# Altium footprint library con-jst.PcbLib: 3 footprints
Each footprint in its own frame and in the unit in brackets; x right, y up, seen from the top. Pads: shape width x height; smd on the part's side, far side on the other; paste and mask are expansions set on the pad; w line width, h text height; cw(c..) or ccw(c..) is an arc to the next point about the centre after c.
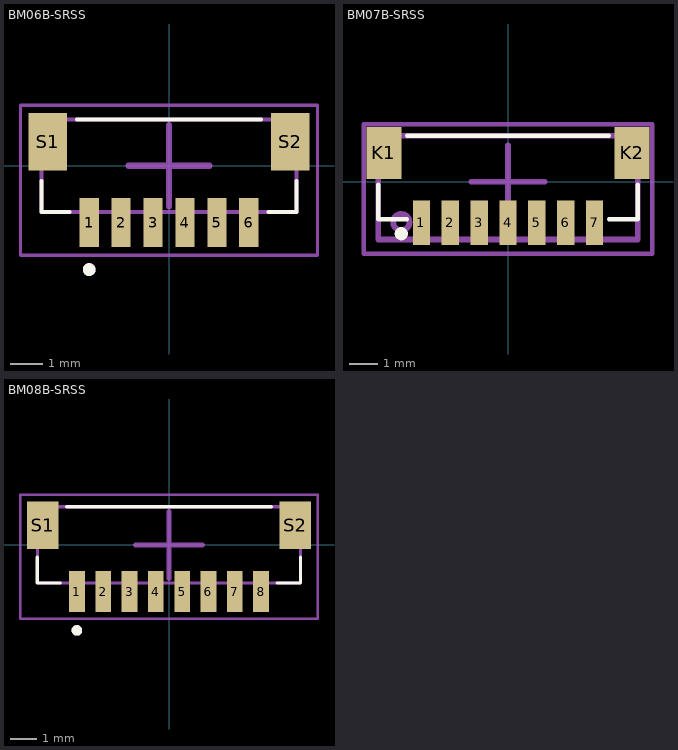
[diagram p0: the footprints below, top view; thin cyan lines are the x and y axes]

## BM06B-SRSS [mm]
height 4.25
pads (8):
  rect 0.6x1.55 smd: 1(-2.5,-1.775) 2(-1.5,-1.775) 3(-0.5,-1.775) 4(0.5,-1.775) 5(1.5,-1.775) 6(2.5,-1.775)
  rect 1.2x1.8 smd: S1(-3.8,0.75) S2(3.8,0.75)
Top Overlay:
  circle w0.2: c-2.5,-3.25 r0.1
  lines w0.127: -4,-0.47 -4,-1.45 -3.12,-1.45 ; -2.88,1.45 2.88,1.45 ; 3.12,-1.45 4,-1.45 4,-0.47
Top Assembly (Mech3):
  circle w0.2: c-2.5,-3.25 r0.1
  lines w0.127: -4,-1.45 -4,1.45 4,1.45 4,-1.45 -4,-1.45
Top Courtyard:
  lines w0.1: -4.65,-2.8 4.65,-2.8 4.65,1.9 -4.65,1.9 -4.65,-2.8
  lines w0.2: -1.27,0 1.27,0 ; 0,-1.27 0,1.27
3D body "step_temp.STEP": height 4.25, standoff 0, extent -4,-2.15 4,1.45

## BM07B-SRSS [mm]
height 4.25
pads (9):
  rect 0.6x1.55 smd: 1(-3,-1.425) 2(-2,-1.425) 3(-1,-1.425) 4(0,-1.425) 5(1,-1.425) 6(2,-1.425) 7(3,-1.425)
  rect 1.2x1.8 smd: K1(-4.3,1) K2(4.3,1)
Top Overlay:
  circle w0.254: c-3.7,-1.8 r0.1
  lines w0.15: -4.5,-0.1 -4.5,-1.3 -3.5,-1.3 ; -3.5,1.6 3.5,1.6 ; 3.5,-1.3 4.5,-1.3 4.5,-0.1
Top Assembly (Mech3):
  circle w0.2: c-3.7,-1.4 r0.283
  lines w0.2: -4.5,-2 -4.5,1.6 4.5,1.6 4.5,-2 -4.5,-2
Top Courtyard:
  lines w0.15: -5,-2.5 5,-2.5 5,2 -5,2 -5,-2.5
  lines w0.2: -1.27,0 1.27,0 ; 0,-1.27 0,1.27
3D body "BM07B-SRSS-TB.STEP": height 4.29, standoff -0.03, extent -4.5,-2 4.5,1.6

## BM08B-SRSS [mm]
height 4.25
pads (10):
  rect 0.6x1.55 smd: 1(-3.5,-1.775) 2(-2.5,-1.775) 3(-1.5,-1.775) 4(-0.5,-1.775) 5(0.5,-1.775) 6(1.5,-1.775) 7(2.5,-1.775) 8(3.5,-1.775)
  rect 1.2x1.8 smd: S1(-4.8,0.75) S2(4.8,0.75)
Top Overlay:
  circle w0.2: c-3.5,-3.25 r0.1
  lines w0.127: -5,-0.47 -5,-1.45 -4.12,-1.45 ; -3.88,1.45 3.88,1.45 ; 4.12,-1.45 5,-1.45 5,-0.47
Top Assembly (Mech3):
  circle w0.2: c-3.5,-3.25 r0.1
  lines w0.127: -5,-1.45 -5,1.45 5,1.45 5,-1.45 -5,-1.45
Top Courtyard:
  lines w0.1: -5.65,-2.8 -5.65,1.9 5.65,1.9 5.65,-2.8 -5.65,-2.8
  lines w0.2: -1.27,0 1.27,0 ; 0,-1.27 0,1.27
3D body "BM8B-SRSS-TB.step": height 4.25, standoff -0.05, extent -5,-2.199 5,1.4